# Altium footprint library Capacitors.PcbLib: 19 footprints (part 2 of 2)
Each footprint in its own frame and in the unit in brackets; x right, y up, seen from the top. Pads: shape width x height; smd on the part's side, far side on the other; paste and mask are expansions set on the pad; w line width, h text height; cw(c..) or ccw(c..) is an arc to the next point about the centre after c.
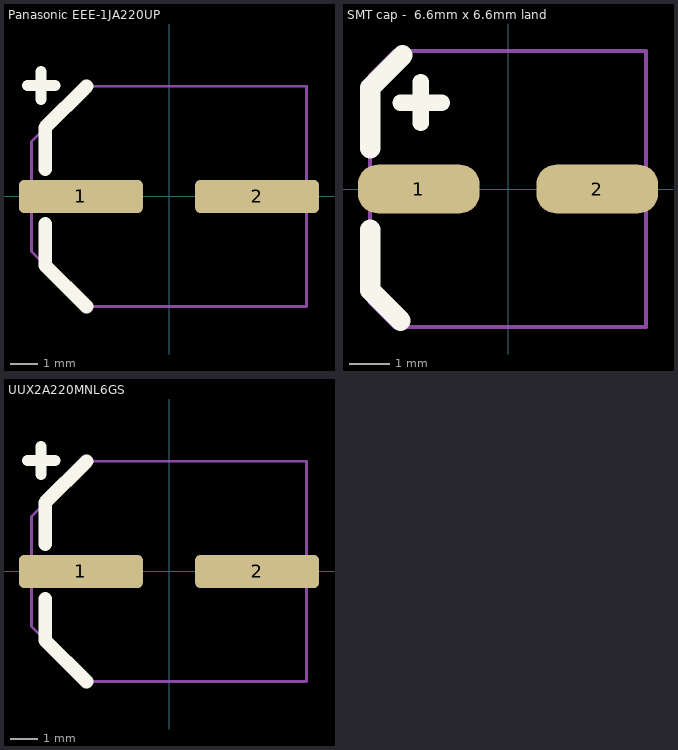
[diagram p1: the footprints below, top view; thin cyan lines are the x and y axes]

## Panasonic EEE-1JA220UP [mm] "Electrolytic capacitor"
height 21.5
pads (2):
  rrect30% 4.5x1.2 smd paste-0.03: 1(-3.2,0) 2(3.2,0)
Top Overlay:
  lines w0.4: -5.15,4.025 -4.134,4.025 ; -4.65,3.525 -4.65,4.541
  lines w0.5: -4.5,-1 -4.5,-2.5 ; -4.5,1 -4.5,2.5 ; -3,-4 -4.5,-2.5 ; -3,4 -4.5,2.5 ; -4.5,-2.5 -4.5,-2.5 ; -4.5,-2.5 -4.5,-2.5 ; -4.5,2.5 -4.5,2.5
Assembly:
  lines w0.1: -5,2 -5,2 ; -5,2 -3,4 5,4 5,-4 -3,-4 -5,-2 -5,2
  text ".Designator" at -4.2,-0.6 h2
3D body "Panasonic-EEE-1JA220UP.stp": height 6.2, standoff 0, extent -4.6,-4.15 4.7,4.15

## SMT cap -  6.6mm x 6.6mm land [mm] "Electrolytic capacitor"
height 21.5
pads (2):
  rrect80% 3x1.2 smd paste-99: 1(-2.2,0) 2(2.2,0)
Top Overlay:
  lines w0.4: -2.65,2.125 -1.634,2.125 ; -2.15,1.625 -2.15,2.641
  lines w0.5: -3.4,-1 -3.4,-2.5 -2.65,-3.25 ; -3.4,1 -3.4,2.5 -2.6,3.3
Top Paste:
  lines w0.85: -3.207,-0.086 -3.207,0.114 -2.7,0.114 -2.7,-0.086 -3.207,-0.086 ; -1.7,-0.114 -1.7,0.086 -1.193,0.086 -1.193,-0.114 -1.7,-0.114 ; 1.193,-0.086 1.193,0.114 1.7,0.114 1.7,-0.086 1.193,-0.086 ; 2.7,-0.114 2.7,0.086 3.207,0.086 3.207,-0.114 2.7,-0.114
Assembly:
  lines w0.1: -3.4,-2.8 -2.8,-3.4 3.4,-3.4 3.4,3.4 -2.8,3.4 -3.4,2.8 -3.4,-2.8
  text ".Designator" at -4.1,-0.6 h2
3D body: height 0.3, standoff 0, extent -3.3,-3.3 3.3,3.3
3D body: height 5.8, standoff 0, extent -3.15,-3.15 3.15,3.15

## UUX2A220MNL6GS [mm] "Electrolytic capacitor"
height 10.5
pads (2):
  rrect30% 4.5x1.2 smd paste-0.03: 1(-3.2,0) 2(3.2,0)
Top Overlay:
  lines w0.4: -5.15,4.025 -4.134,4.025 ; -4.65,3.525 -4.65,4.541
  lines w0.5: -4.5,-1 -4.5,-2.5 ; -4.5,1 -4.5,2.5 ; -3,-4 -4.5,-2.5 ; -3,4 -4.5,2.5 ; -4.5,-2.5 -4.5,-2.5 ; -4.5,-2.5 -4.5,-2.5 ; -4.5,2.5 -4.5,2.5
Assembly:
  lines w0.1: -5,2 -5,-2 -3,-4 5,-4 5,4 -3,4 -5,2 ; -5,2 -5,2
  text ".Designator" at -4.2,-0.6 h2
3D body "Nichicon UUX2A220MNL6GS.stp": height 11.3, standoff 0, extent -4.6,-4.15 4.7,4.15